# EAGLE library part H6062NL (library JetsonProj)
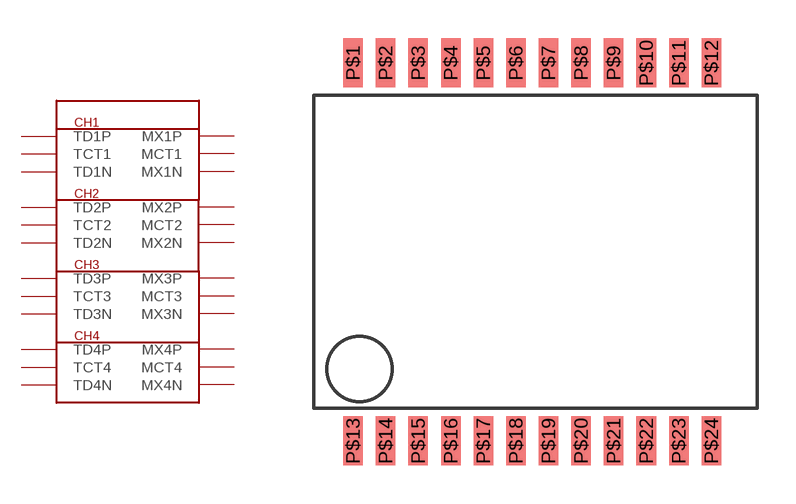
[diagram p1: symbol with the pads of H60XXNL; footprint H60XXNL]

Designator prefix -

## H6062NL  [H60XXNL]
P$1  MX1P
P$2  MCT1
P$3  MX1N
P$4  MX2P
P$5  MCT2
P$6  MX2N
P$7  MX3P
P$8  MCT3
P$9  MX3N
P$10  MX4P
P$11  MCT4
P$12  MX4N
P$13  TD1P
P$14  TCT1
P$15  TD1N
P$16  TD2P
P$17  TCT2
P$18  TD2N
P$19  TD3P
P$20  TCT3
P$21  TD3N
P$22  TD4P
P$23  TCT4
P$24  TD4N

## Footprint H60XXNL (pad centres in mm)
smd 0.762 x 1.905: P$1 -6.604,6.858; P$2 -5.334,6.858; P$3 -4.064,6.858; P$4 -2.794,6.858; P$5 -1.524,6.858; P$6 -0.254,6.858; P$7 1.016,6.858; P$8 2.286,6.858; P$9 3.556,6.858; P$10 4.826,6.858; P$11 6.096,6.858; P$12 7.366,6.858; P$13 -6.604,-7.874; P$14 -5.334,-7.874; P$15 -4.064,-7.874; P$16 -2.794,-7.874; P$17 -1.524,-7.874; P$18 -0.254,-7.874; P$19 1.016,-7.874; P$20 2.286,-7.874; P$21 3.556,-7.874; P$22 4.826,-7.874; P$23 6.096,-7.874; P$24 7.366,-7.874